# Altium footprint library fgr_modules.PcbLib: 1 footprints
Each footprint in its own frame and in the unit in brackets; x right, y up, seen from the top. Pads: shape width x height; smd on the part's side, far side on the other; paste and mask are expansions set on the pad; w line width, h text height; cw(c..) or ccw(c..) is an arc to the next point about the centre after c.
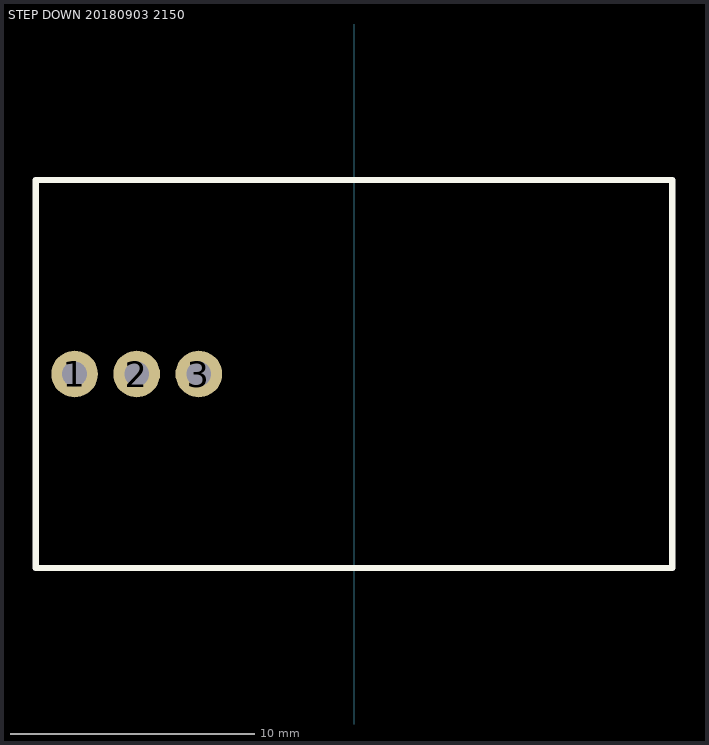
[diagram p0: the footprint, top view; thin cyan lines are the x and y axes]

## STEP DOWN 20180903 2150 [mil]
pads (3):
  round 75 hole 40: 1(-450,-600) 2(-350,-600) 3(-250,-600)
Top Overlay:
  lines w10: -512.5,-912.5 512.5,-912.5 512.5,-287.5 -512.5,-287.5 -512.5,-912.5
3D body: height 675, standoff -118.11, extent -512.5,-912.5 509.8,-282.58